# Altium footprint library SM_DIODE_SMC.PcbLib: 1 footprints
Each footprint in its own frame and in the unit in brackets; x right, y up, seen from the top. Pads: shape width x height; smd on the part's side, far side on the other; paste and mask are expansions set on the pad; w line width, h text height; cw(c..) or ccw(c..) is an arc to the next point about the centre after c.
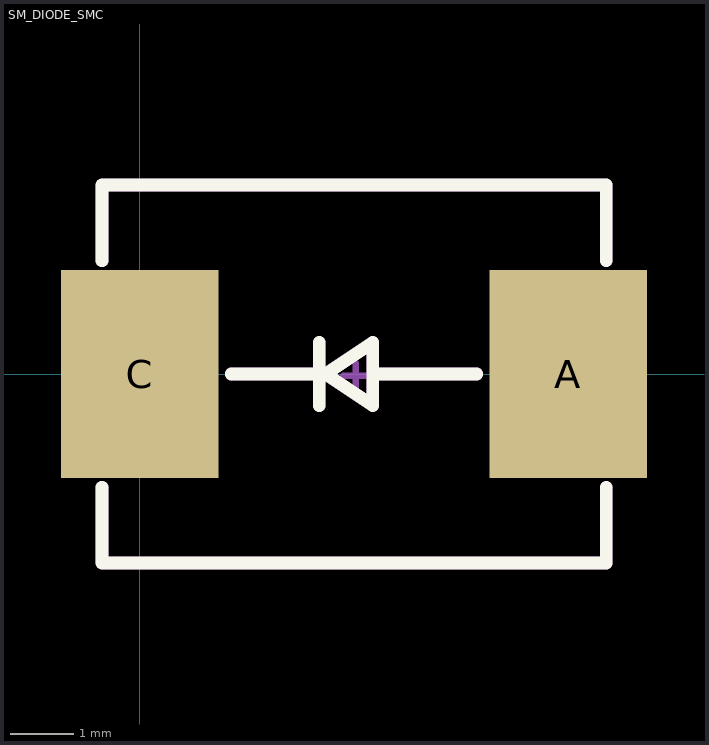
[diagram p0: the footprint, top view; thin cyan lines are the x and y axes]

## SM_DIODE_SMC [mm]
pads (2):
  rect 2.499x3.299 smd: A(6.8,0) C(0,0)
Top Overlay:
  lines w0.2: -0.6,-1.8 -0.6,-3 7.4,-3 7.4,-1.8 ; -0.6,1.8 -0.6,3 7.4,3 7.4,1.8 ; 1.45,0 2.85,0 ; 2.85,-0.5 2.85,0.5 ; 3.7,0.05 3.7,-0.5 2.95,0 3.7,0.5 3.7,0 5.35,0
Mechanical 1:
  lines w0.2: -0.6,-1.8 -0.6,-3 7.4,-3 7.4,-1.8 ; -0.6,1.8 -0.6,3 7.4,3 7.4,1.8 ; 1.45,0 2.85,0 ; 2.85,-0.5 2.85,0 ; 2.85,0.5 2.85,0 ; 3.7,0 5.35,0 ; 2.95,0 3.7,0.5 3.7,0.45 3.7,-0.5 2.95,0
Mechanical 15:
  lines w0.1: 3.229,-0.025 3.629,-0.025 ; 3.429,-0.225 3.429,0.175
3D body: height 2.45, standoff 0.05, extent 0.119,-2.946 6.662,2.896